# EAGLE library part CAN_PCA82C250 (library isysbus_ics)
CAN-Transceiver: PCA82C250 / MCP2551 Order numbers (DIP8): - Reichelt: PCA 82C250 - CSD-Electronics: N/A Order numbers (SO8): - Reichelt: PCA 82C250 T - CSD-Electronics: N/A
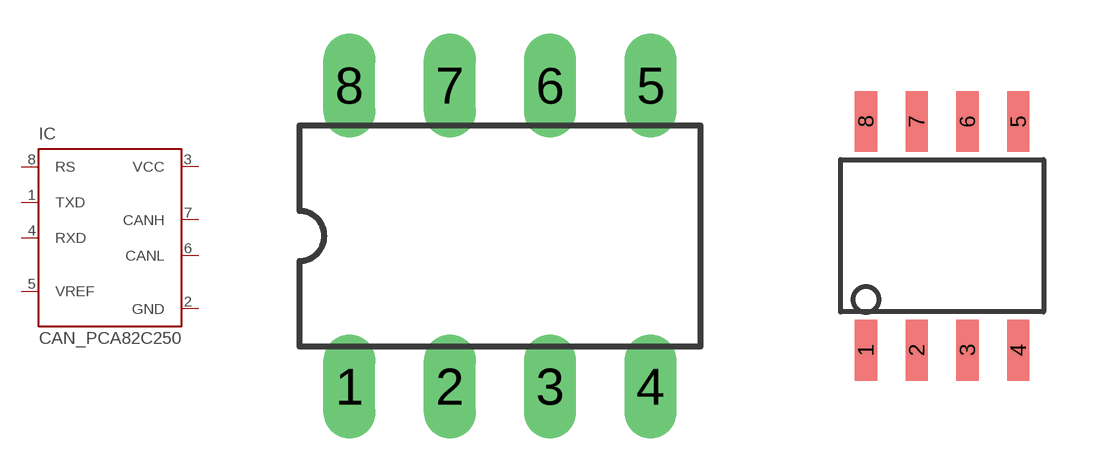
[diagram p18: symbol with the pads of DIL08; footprints DIL08, SO08N.PAC]

Designator prefix IC

## CAN_PCA82C250  [DIL08]
1  TXD  in
2  GND  pwr
3  VCC  pwr
4  RXD  out
5  VREF  out
6  CANL
7  CANH
8  RS  in

## CAN_PCA82C250T  [SO08N.PAC]
Pads as for DIL08

## Footprint DIL08 (pad centres in mm)
Dual In Line
drill 0.813 long: 1 -3.81,-3.81; 2 -1.27,-3.81; 3 1.27,-3.81; 4 3.81,-3.81; 5 3.81,3.81; 6 1.27,3.81; 7 -1.27,3.81; 8 -3.81,3.81

## Footprint SO08N.PAC (pad centres in mm)
smd 0.559 x 1.524: 1 -1.905,-2.223; 2 -0.635,-2.223; 3 0.635,-2.223; 4 1.905,-2.223; 5 1.905,3.493; 6 0.635,3.493; 7 -0.635,3.493; 8 -1.905,3.493